# Altium footprint library ToponLib.PcbLib: 57 footprints (part 2 of 4)
Each footprint in its own frame and in the unit in brackets; x right, y up, seen from the top. Pads: shape width x height; smd on the part's side, far side on the other; paste and mask are expansions set on the pad; w line width, h text height; cw(c..) or ccw(c..) is an arc to the next point about the centre after c.
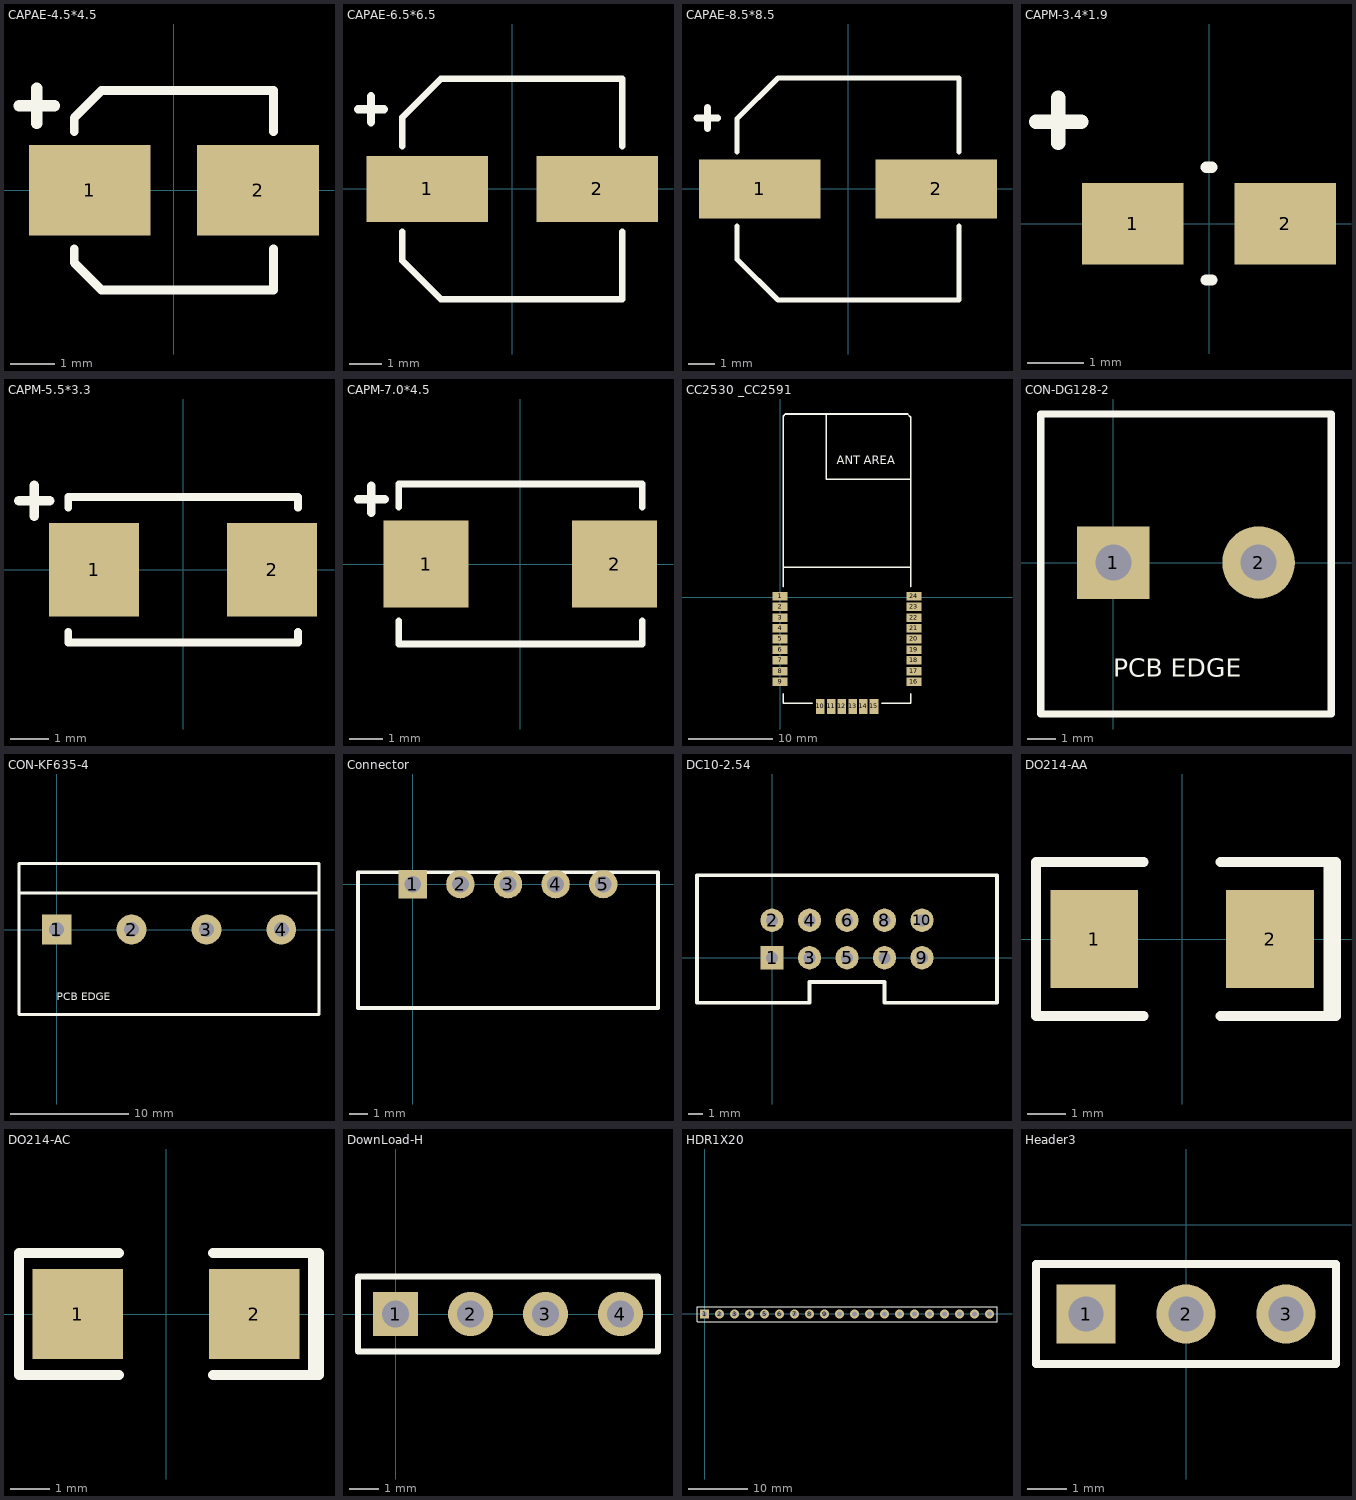
[diagram p1: the footprints below, top view; thin cyan lines are the x and y axes]

## CAPAE-4.5*4.5 [mm] "Aluminum Electrolytic Capacitor, Body 4.30x4.30x6.00mm, IPC Low Density"
height 6
pads (2):
  rect 2.75x2.05 smd: 1(-1.9,0) 2(1.9,0)
Top Overlay:
  lines w0.2: -2.25,-1.325 -2.25,-1.637 -1.637,-2.25 2.25,-2.25 2.25,-1.325 ; -2.25,1.325 -2.25,1.637 -1.637,2.25 2.25,2.25 2.25,1.325
  lines w0.254: -3.499,1.905 -2.699,1.905 ; -3.099,1.505 -3.099,2.305

## CAPAE-6.5*6.5 [mm]
height 7.7
pads (2):
  rect 3.75x2.05 smd: 1(-2.625,0) 2(2.625,0)
Top Overlay:
  lines w0.2: -3.4,-1.325 -3.4,-2.213 -2.213,-3.4 3.4,-3.4 3.4,-1.325 ; -3.4,1.325 -3.4,2.213 -2.213,3.4 3.4,3.4 3.4,1.325
  lines w0.254: -4.769,2.464 -3.969,2.464 ; -4.369,2.064 -4.369,2.864

## CAPAE-8.5*8.5 [mm]
height 10.5
pads (2):
  rect 4.65x2.25 smd: 1(-3.375,0) 2(3.375,0)
Top Overlay:
  lines w0.2: -4.25,-1.425 -4.25,-2.688 -2.688,-4.25 4.25,-4.25 4.25,-1.425 ; -4.25,1.425 -4.25,2.687 -2.688,4.25 4.25,4.25 4.25,1.425
  lines w0.254: -5.785,2.718 -4.985,2.718 ; -5.385,2.318 -5.385,3.118

## CAPM-3.4*1.9 [mm] "Molded Capacitor, 2-Leads, Body 3.35x1.90mm, IPC Medium Density"
height 1.6
pads (2):
  rect 1.8x1.45 smd: 1(-1.35,0) 2(1.35,0)
Top Overlay:
  lines w0.2: -0.05,-1 0.05,-1 ; -0.05,1 0.05,1
  lines w0.254: -3.067,1.803 -2.267,1.803 ; -2.673,1.429 -2.673,2.229

## CAPM-5.5*3.3 [mm]
height 2.5
pads (2):
  rect 2.35x2.45 smd: 1(-2.325,0) 2(2.325,0)
Top Overlay:
  lines w0.2: -3,-1.625 -3,-1.9 3,-1.9 3,-1.625 ; -3,1.625 -3,1.9 3,1.9 3,1.625
  lines w0.254: -4.286,1.803 -3.486,1.803 ; -3.886,1.403 -3.886,2.203

## CAPM-7.0*4.5 [mm] "Molded Capacitor, 2-Leads, Body 7.00x4.50mm, IPC Medium Density"
height 2.8
pads (2):
  rect 2.55x2.6 smd: 1(-2.825,0) 2(2.825,0)
Top Overlay:
  lines w0.2: -3.65,-1.7 -3.65,-2.4 3.65,-2.4 3.65,-1.7 ; -3.65,1.7 -3.65,2.4 3.65,2.4 3.65,1.7
  lines w0.254: -4.87,1.942 -4.07,1.942 ; -4.47,1.542 -4.47,2.342

## CC2530 _CC2591 [mil]
pads (24):
  rect 70x40 smd: 1(0,5) 2(-0.04,-44.88) 3(-0.04,-94.88) 4(-0.04,-144.88) 5(-0.04,-194.88) 6(-0.04,-244.88) 7(-0.04,-294.88) 8(-0.04,-344.88) 9(-0.04,-394.88) 16(624.96,-394.88) 17(624.96,-344.88) 18(624.96,-294.88) 19(624.96,-244.88) 20(624.96,-194.88) 21(624.96,-144.88) 22(624.96,-94.88) 23(624.96,-44.88) 24(624.96,5.12)
  rect 40x70 smd: 10(188.42,-509.88) 11(238.42,-509.88) 12(288.42,-509.88) 13(338.42,-509.88) 14(388.42,-509.88) 15(438.42,-509.88)
Top Overlay:
  lines w8: 15,-450 15,-495 150,-495 ; 15,50 15,730 15,845 25,855 595,855 610,840 610,730 610,50 ; 15,140 610,140 ; 215,855 215,730 215,550 610,550 ; 475,-495 610,-495 610,-450
  text "ANT AREA" at 265,620 h40
Top Paste:
  lines w3.94: 15,845 20,850 ; 600,850 610,840

## CON-DG128-2 [mm]
pads (2):
  rect 2.54x2.54 hole 1.27: 1(0,0)
  round 2.54 hole 1.27: 2(5.08,0)
Top Overlay:
  lines w0.254: -2.54,-5.3 -2.54,5.2 7.62,5.2 7.62,-5.3 -2.54,-5.3
  text "PCB EDGE" at 0,-4 h0.64

## CON-KF635-4 [mm]
pads (4):
  rect 2.54x2.54 hole 1.27: 1(0,0)
  round 2.54 hole 1.27: 2(6.35,0) 3(12.7,0) 4(19.05,0)
Top Overlay:
  lines w0.254: -3.2,3.1 22.25,3.1 ; -3.2,-7.2 -3.2,5.6 22.25,5.6 22.25,-7.2 -3.2,-7.2
  text "PCB EDGE" at 0,-6 h0.64

## Connector [mm]
pads (5):
  rect 1.52x1.5 hole 0.9: 1(0,0)
  oval 1.52x1.5 hole 0.9: 2(2.54,0) 3(5.08,0) 4(7.62,0) 5(10.16,0)
Top Overlay:
  lines w0.203: -2.921,-6.604 -2.921,0.635 -1.27,0.635 13.081,0.635 13.081,-6.604 -2.921,-6.604

## DC10-2.54 [mil]
pads (10):
  rect 62x62 hole 32: 1(0,0)
  round 62 hole 32: 2(0,100) 3(100,0) 4(100,100) 5(200,0) 6(200,100) 7(300,0) 8(300,100) 9(400,0) 10(400,100)
Top Overlay:
  lines w10: -200,-120 100,-120 100,-65 300,-65 300,-120 600,-120 600,220 -200,220 -200,-120

## DO214-AA [mil]
pads (2):
  rect 90x100 smd: 1(-90,0) 2(90,0)
Top Overlay:
  lines w10: -149.61,-78.74 -149.61,78.74 ; -147.64,-78.74 -39.37,-78.74 ; -147.64,78.74 -39.37,78.74 ; 39.37,-78.74 157.48,-78.74 157.48,78.74 39.37,78.74 ; 149.61,-78.74 149.61,78.74

## DO214-AC [mm]
pads (2):
  rect 2.3x2.3 smd: 1(-2.25,0) 2(2.25,0)
Top Overlay:
  lines w0.254: -1.2,-1.55 -3.75,-1.55 -3.75,1.55 -1.2,1.55 ; 1.2,-1.55 3.9,-1.55 3.9,1.55 1.2,1.55 ; 3.75,-1.55 3.75,1.55

## DownLoad-H [mm]
pads (4):
  rect 1.52x1.5 hole 0.9: 1(0,0)
  oval 1.52x1.5 hole 0.9: 2(2.54,0) 3(5.08,0) 4(7.62,0)
Top Overlay:
  lines w0.203: -1.27,-1.27 -1.27,1.27 8.89,1.27 8.89,-1.27 -1.27,-1.27

## HDR1X20 [mm]
pads (20):
  rect 1.5x1.5 hole 0.9: 1(0,0)
  round 1.5 hole 0.9: 2(2.54,0) 3(5.08,0) 4(7.62,0) 5(10.16,0) 6(12.7,0) 7(15.24,0) 8(17.78,0) 9(20.32,0) 10(22.86,0) 11(25.4,0) 12(27.94,0) 13(30.48,0) 14(33.02,0) 15(35.56,0) 16(38.1,0) 17(40.64,0) 18(43.18,0) 19(45.72,0) 20(48.26,0)
Top Overlay:
  lines w0.2: -1.27,-1.27 49.53,-1.27 49.53,1.27 0.635,1.27 -1.27,1.27 -1.27,-1.27

## Header3 [mm]
pads (3):
  rect 1.5x1.5 hole 0.9: 1(-2.54,-2.27)
  round 1.5 hole 0.9: 2(0,-2.27) 3(2.54,-2.27)
Top Overlay:
  lines w0.2: -3.81,-3.54 3.81,-3.54 3.81,-1 -3.81,-1 -3.81,-3.54